# Altium schematic symbol library hri_hand.SchLib: 12 symbols
Pins are listed as number, name and electrical type; pins without a type are passive.

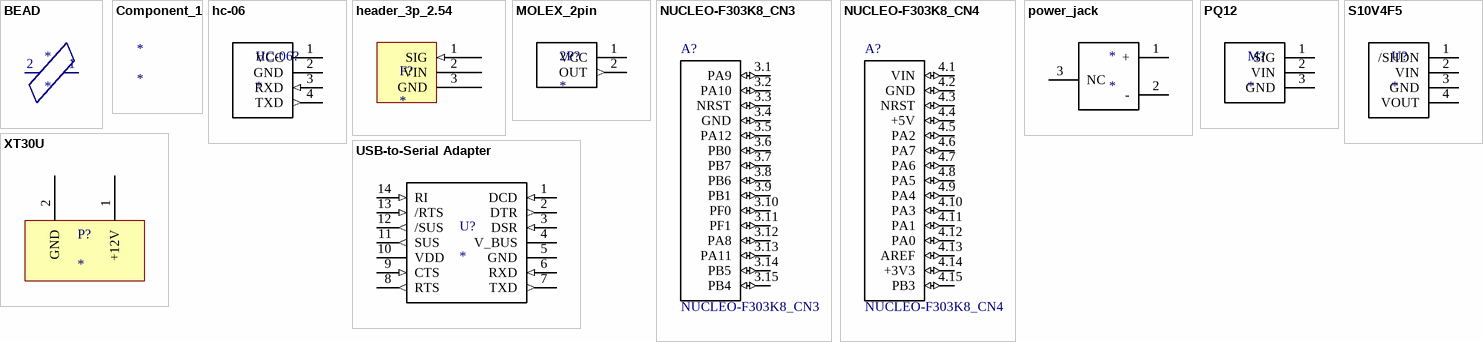
[diagram p0: symbols BEAD to XT30U]

## BEAD
designator *
footprint L-1608-SS
pins: 1, 2

## Component_1
designator *

## hc-06
designator HC-06?
footprint header_4x1_2.54
pins: 1 VCC (power), 2 GND (power), 3 RXD (in), 4 TXD (out)

## header_3p_2.54
designator F?
footprint header_3x1_2.54
pins: 1 SIG (in), 2 VIN (power), 3 GND (power)

## MOLEX_2pin
designator 2P?
footprint molex_2p_2.54 (MOLEX 5267)
pins: 1 VCC (power), 2 OUT (out)

## NUCLEO-F303K8_CN3
designator A?
STM32 Nucleo-32 development board with STM32F303K8T6 MCU, supports Arduino connectivity; MF: STMicroelectronics; MP: NUCLEO-F303K8; Digi-Key_Purchase_URL: https://www.digikey.kr/product-detail/en/stmicroelectronics/NUCLEO-F303K8/497-15981-ND/5428805?utm_source=snapeda&utm_medium=aggregator&utm_campaign=symbol; SnapEDA_Link: https://www.snapeda.com/parts/NUCLEO-F303K8/STMicroelectronics/view-part/?ref=snap; Package: None; Digi-Key_Part_Number: 497-15981-ND; Value: *
footprint header_1*15_3
pins: 3.1 PA9 (io), 3.2 PA10 (io), 3.3 NRST (io), 3.4 GND (io), 3.5 PA12 (io), 3.6 PB0 (io), 3.7 PB7 (io), 3.8 PB6 (io), 3.9 PB1 (io), 3.10 PF0 (io), 3.11 PF1 (io), 3.12 PA8 (io), 3.13 PA11 (io), 3.14 PB5 (io), 3.15 PB4 (io)

## NUCLEO-F303K8_CN4
designator A?
STM32 Nucleo-32 development board with STM32F303K8T6 MCU, supports Arduino connectivity; MF: STMicroelectronics; MP: NUCLEO-F303K8; Digi-Key_Purchase_URL: https://www.digikey.kr/product-detail/en/stmicroelectronics/NUCLEO-F303K8/497-15981-ND/5428805?utm_source=snapeda&utm_medium=aggregator&utm_campaign=symbol; SnapEDA_Link: https://www.snapeda.com/parts/NUCLEO-F303K8/STMicroelectronics/view-part/?ref=snap; Package: None; Digi-Key_Part_Number: 497-15981-ND; Value: *
footprint header_1*15_4
pins: 4.1 VIN (io), 4.2 GND (io), 4.3 NRST (io), 4.4 +5V (io), 4.5 PA2 (io), 4.6 PA7 (io), 4.7 PA6 (io), 4.8 PA5 (io), 4.9 PA4 (io), 4.10 PA3 (io), 4.11 PA1 (io), 4.12 PA0 (io), 4.13 AREF (io), 4.14 +3V3 (io), 4.15 PB3 (io)

## power_jack
designator *
pins: 1 + (power), 2 - (power), 3 NC (power)

## PQ12
designator M?
footprint molex_3p_2.54 (MOLEX 5267)
pins: 1 SIG (power), 2 VIN (power), 3 GND (power)

## S10V4F5
designator U?
footprint header_4x1_2.54
pins: 1 /SHDN (power), 2 VIN (power), 3 GND (power), 4 VOUT (power)

## USB-to-Serial Adapter
designator U?
pins: 1 DCD (in), 2 DTR (out), 3 DSR (in), 4 V_BUS (power), 5 GND (power), 6 RXD (in), 7 TXD (out), 8 RTS (out), 9 CTS (in), 10 VDD (power), 11 SUS (out), 12 /SUS (out), 13 /RTS (in), 14 RI (in)

## XT30U
designator P?
footprint XT30F
pins: 1 +12V (power), 2 GND (power)